# Altium footprint library WAT.PcbLib: 18 footprints (part 1 of 2)
Each footprint in its own frame and in the unit in brackets; x right, y up, seen from the top. Pads: shape width x height; smd on the part's side, far side on the other; paste and mask are expansions set on the pad; w line width, h text height; cw(c..) or ccw(c..) is an arc to the next point about the centre after c.
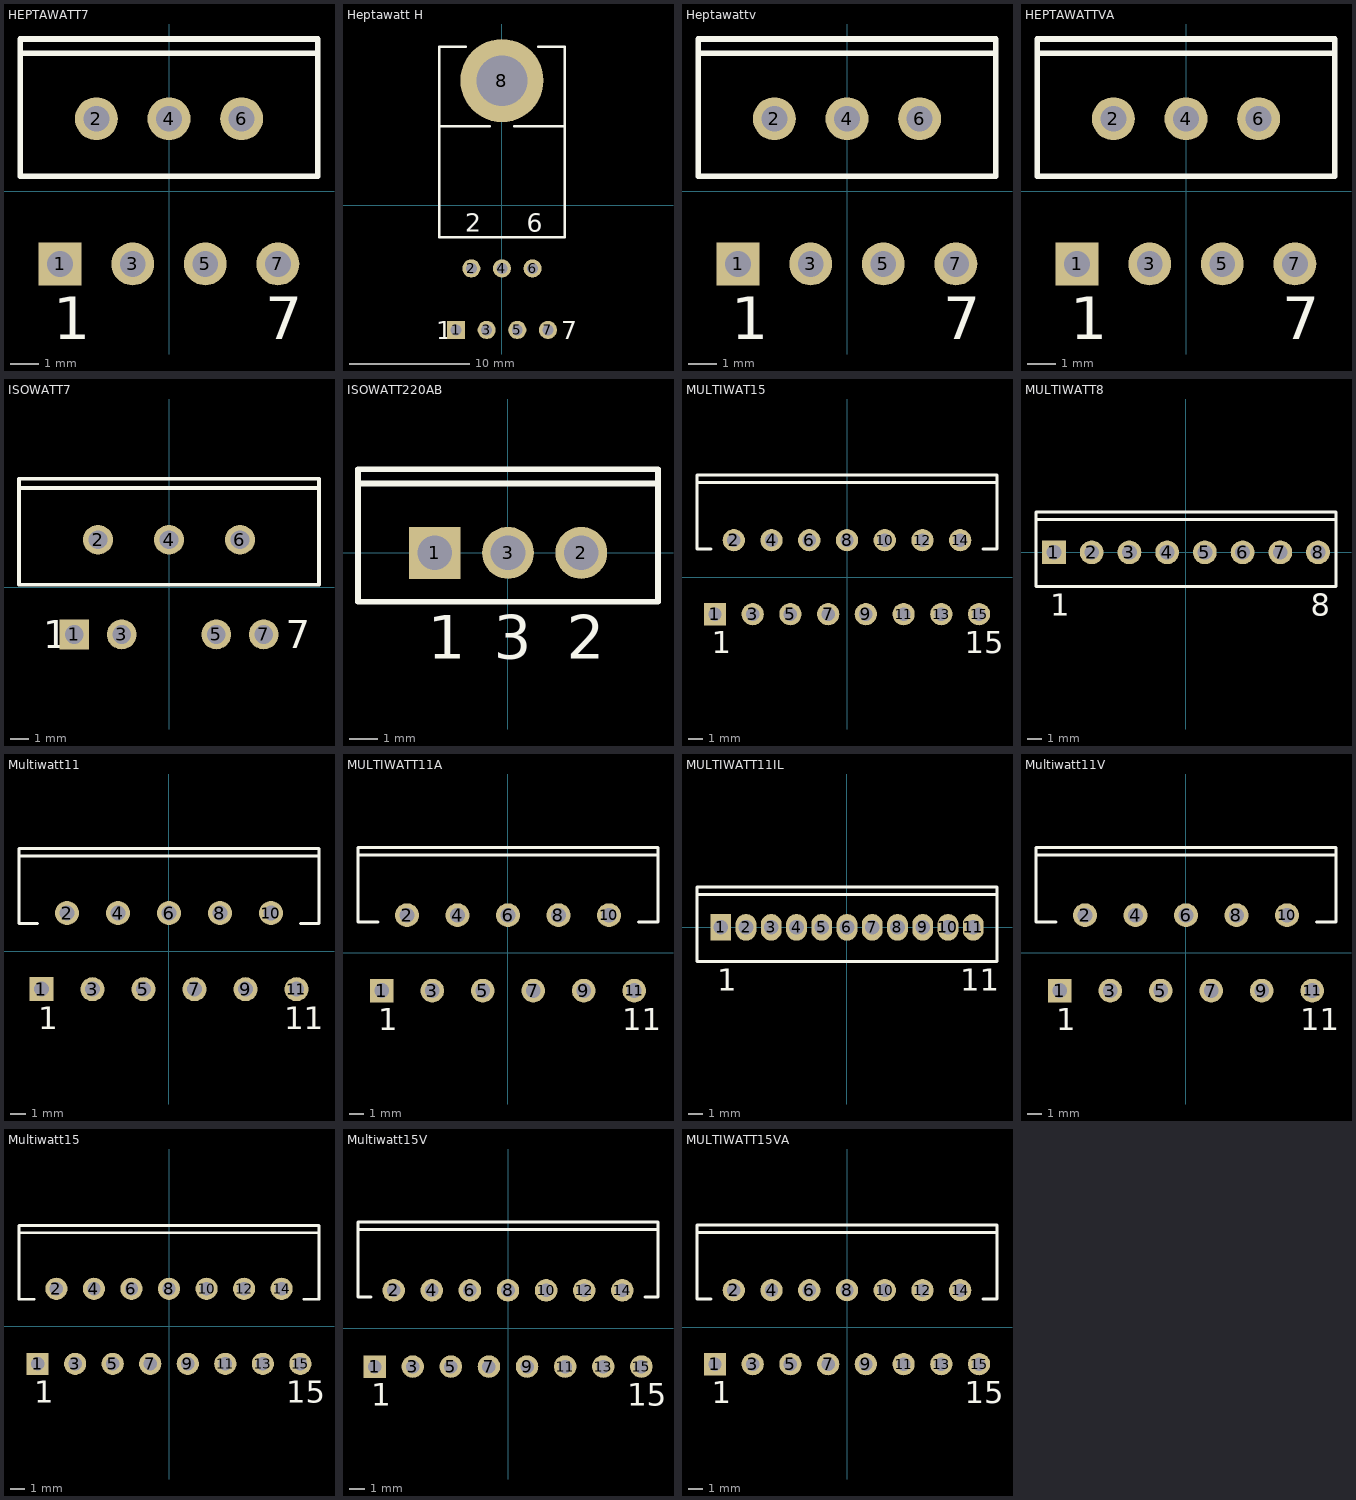
[diagram p0: the footprints below, top view; thin cyan lines are the x and y axes]

## HEPTAWATT7 [mm] "TO, Thru-Hole, Vertical, Heatsink Mounted; 7 Bent Staggered Leads; Pitch 1.27 mm"
height 20.2
pads (7):
  rect 1.5x1.5 hole 0.9: 1(-3.81,-2.54)
  round 1.5 hole 0.9: 2(-2.54,2.54) 3(-1.27,-2.54) 4(0,2.54) 5(1.27,-2.54) 6(2.54,2.54) 7(3.81,-2.54)
Top Overlay:
  lines w0.2: -5.2,4.83 5.2,4.83 ; -5.2,0.53 5.2,0.53 5.2,5.33 -5.2,5.33 -5.2,0.53
  text "7" at 3.37,-5.165 h1.5
  text "1" at -4.05,-5.165 h1.5

## Heptawatt H [mm] "TO, Thru-Hole, Horizontal, Heatsink Mounted; 7 Bent Staggered Leads; Pitch 1.27 mm"
height 4.8
pads (8):
  rect 1.5x1.5 hole 0.9: 1(-3.81,-10.34)
  round 1.5 hole 0.9: 2(-2.54,-5.24) 3(-1.27,-10.34) 4(0,-5.24) 5(1.27,-10.34) 6(2.54,-5.24) 7(3.81,-10.34)
  round 6.9 hole 4.2: 8(0,10.34)
Top Overlay:
  lines w0.2: -5.2,6.54 -1,6.54 ; -3,13.14 -5.2,13.14 -5.2,-2.66 5.2,-2.66 5.2,13.14 3,13.14 ; 1,6.54 5.2,6.54
  text "1" at -5.435,-11.09 h1.5
  text "7" at 4.935,-11.09 h1.5
  text "6" at 2.04,-2.185 h1.5
  text "2" at -3.04,-2.185 h1.5

## Heptawattv [mm] "TO, Thru-Hole, Vertical, Heatsink Mounted; 7 Bent Staggered Leads; Pitch 1.27 mm"
height 20.1
pads (7):
  rect 1.5x1.5 hole 0.9: 1(-3.81,-2.54)
  round 1.5 hole 0.9: 2(-2.54,2.54) 3(-1.27,-2.54) 4(0,2.54) 5(1.27,-2.54) 6(2.54,2.54) 7(3.81,-2.54)
Top Overlay:
  lines w0.2: -5.2,4.83 5.2,4.83 ; -5.2,0.53 -5.2,5.33 5.2,5.33 5.2,0.53 -5.2,0.53
  text "1" at -4.05,-5.165 h1.5
  text "7" at 3.37,-5.165 h1.5

## HEPTAWATTVA [mm] "TO, Thru-Hole, Vertical, Heatsink Mounted; 7 Bent Staggered Leads; Pitch 1.27 mm"
height 20.2
pads (7):
  rect 1.5x1.5 hole 0.9: 1(-3.81,-2.54)
  round 1.5 hole 0.9: 2(-2.54,2.54) 3(-1.27,-2.54) 4(0,2.54) 5(1.27,-2.54) 6(2.54,2.54) 7(3.81,-2.54)
Top Overlay:
  lines w0.2: -5.2,4.83 5.2,4.83 ; -5.2,0.53 -5.2,5.33 5.2,5.33 5.2,0.53 -5.2,0.53
  text "1" at -4.05,-5.165 h1.5
  text "7" at 3.37,-5.165 h1.5

## ISOWATT7 [mm] "TO, Thru-Hole, Vertical, Heatsink Mounted; 7 Bent Staggered Leads; Pitch 1.27 mm"
height 25.3
pads (7):
  rect 1.6x1.6 hole 1: 1(-5.08,-2.54)
  round 1.6 hole 1: 2(-3.81,2.54) 3(-2.54,-2.54) 4(0,2.54) 5(2.54,-2.54) 6(3.81,2.54) 7(5.08,-2.54)
Top Overlay:
  lines w0.2: -8.05,5.32 8.05,5.32 ; -8.05,0.12 8.05,0.12 8.05,5.82 -8.05,5.82 -8.05,0.12
  text "7" at 6.255,-3.29 h1.5
  text "1" at -6.755,-3.29 h1.5

## ISOWATT220AB [mm] "TO, Thru-Hole, Vertical, Heatsink Mounted; 3 In-Line Leads; Pitch 2.54 mm; Pin sequence 1, 3, 2"
height 16.4
pads (3):
  rect 1.8x1.8 hole 1.2: 1(-2.54,0)
  round 1.8 hole 1.2: 2(2.54,0) 3(0,0)
Top Overlay:
  lines w0.2: -5.2,2.4 5.2,2.4 ; -5.2,-1.7 5.2,-1.7 5.2,2.9 -5.2,2.9 -5.2,-1.7
  text "1" at -2.79,-3.675 h1.5
  text "2" at 2.04,-3.675 h1.5
  text "3" at -0.5,-3.675 h1.5

## MULTIWAT15 [mm] "TO, Thru-Hole, Vertical, Heatsink Mounted; 15 Bent Staggered Leads; Pitch 1.27 mm"
height 21
pads (15):
  rect 1.5x1.5 hole 0.9: 1(-8.89,-2.49)
  round 1.5 hole 0.9: 2(-7.62,2.49) 3(-6.35,-2.49) 4(-5.08,2.49) 5(-3.81,-2.49) 6(-2.54,2.49) 7(-1.27,-2.49) 8(0,2.49) 9(1.27,-2.49) 10(2.54,2.49) 11(3.81,-2.49) 12(5.08,2.49) 13(6.35,-2.49) 14(7.62,2.49) 15(8.89,-2.49)
Top Overlay:
  lines w0.2: -10.1,6.39 10.1,6.39 ; -9.144,1.89 -10.1,1.89 -10.1,6.89 10.1,6.89 10.1,1.89 9.144,1.89
  text "15" at 7.94,-5.115 h1.5
  text "1" at -9.12,-5.115 h1.5

## MULTIWATT8 [mm] "TO, Thru-Hole, Vertical, Heatsink Mounted; 8 In-Line Leads; Pitch 2.54 mm"
height 20.5
pads (8):
  rect 1.6x1.6 hole 1: 1(-8.89,0)
  round 1.6 hole 1: 2(-6.35,0) 3(-3.81,0) 4(-1.27,0) 5(1.27,0) 6(3.81,0) 7(6.35,0) 8(8.89,0)
Top Overlay:
  lines w0.2: -10.1,2.2 10.1,2.2 ; -10.1,-2.3 -10.1,2.7 10.1,2.7 10.1,-2.3 -10.1,-2.3
  text "8" at 8.39,-4.275 h1.5
  text "1" at -9.14,-4.275 h1.5

## Multiwatt11 [mm] "TO, Thru-Hole, Vertical, Heatsink Mounted; 11 Bent Staggered Leads; Pitch 1.7 mm"
height 21
pads (11):
  rect 1.6x1.6 hole 1: 1(-8.5,-2.54)
  round 1.6 hole 1: 2(-6.8,2.54) 3(-5.1,-2.54) 4(-3.4,2.54) 5(-1.7,-2.54) 6(0,2.54) 7(1.7,-2.54) 8(3.4,2.54) 9(5.1,-2.54) 10(6.8,2.54) 11(8.5,-2.54)
Top Overlay:
  lines w0.2: -10,6.33 9.9,6.33 ; -8.754,1.83 -10,1.83 -10,6.83 10,6.83 10,1.83 8.774,1.83
  text "1" at -8.73,-5.215 h1.5
  text "11" at 7.67,-5.215 h1.5

## MULTIWATT11A [mm] "TO, Thru-Hole, Vertical, Heatsink Mounted; 11 Bent Staggered Leads; Pitch 1.7 mm"
height 21
pads (11):
  rect 1.6x1.6 hole 1: 1(-8.5,-2.54)
  round 1.6 hole 1: 2(-6.8,2.54) 3(-5.1,-2.54) 4(-3.4,2.54) 5(-1.7,-2.54) 6(0,2.54) 7(1.7,-2.54) 8(3.4,2.54) 9(5.1,-2.54) 10(6.8,2.54) 11(8.5,-2.54)
Top Overlay:
  lines w0.2: -10.1,6.59 10.1,6.59 ; -8.754,2.09 -10.1,2.09 -10.1,7.09 10.1,7.09 10.1,2.09 8.774,2.09
  text "1" at -8.73,-5.215 h1.5
  text "11" at 7.69,-5.215 h1.5

## MULTIWATT11IL [mm] "TO, Thru-Hole, Vertical, Heatsink Mounted; 11 In-Line Leads; Pitch 1.70 mm"
height 17.8
pads (11):
  rect 1.4x1.8 hole 1: 1(-8.5,0)
  oval 1.4x1.8 hole 1: 2(-6.8,0) 3(-5.1,0) 4(-3.4,0) 5(-1.7,0) 6(0,0) 7(1.7,0) 8(3.4,0) 9(5.1,0) 10(6.8,0) 11(8.5,0)
Top Overlay:
  lines w0.2: -10.1,2.2 10.1,2.2 ; -10.1,-2.3 10.1,-2.3 10.1,2.7 -10.1,2.7 -10.1,-2.3
  text "1" at -8.75,-4.275 h1.5
  text "11" at 7.625,-4.275 h1.5

## Multiwatt11V [mm] "TO, Thru-Hole, Vertical, Heatsink Mounted; 11 Bent Staggered Leads; Pitch 1.7 mm"
height 21
pads (11):
  rect 1.6x1.6 hole 1: 1(-8.5,-2.54)
  round 1.6 hole 1: 2(-6.8,2.54) 3(-5.1,-2.54) 4(-3.4,2.54) 5(-1.7,-2.54) 6(0,2.54) 7(1.7,-2.54) 8(3.4,2.54) 9(5.1,-2.54) 10(6.8,2.54) 11(8.5,-2.54)
Top Overlay:
  lines w0.2: -10.1,6.59 10.1,6.59 ; -8.754,2.09 -10.1,2.09 -10.1,7.09 10.1,7.09 10.1,2.09 8.774,2.09
  text "11" at 7.69,-5.215 h1.5
  text "1" at -8.73,-5.215 h1.5

## Multiwatt15 [mm] "TO, Thru-Hole, Vertical, Heatsink Mounted; 15 Bent Staggered Leads; Pitch 1.27 mm"
height 21
pads (15):
  rect 1.5x1.5 hole 0.9: 1(-8.89,-2.54)
  round 1.5 hole 0.9: 2(-7.62,2.54) 3(-6.35,-2.54) 4(-5.08,2.54) 5(-3.81,-2.54) 6(-2.54,2.54) 7(-1.27,-2.54) 8(0,2.54) 9(1.27,-2.54) 10(2.54,2.54) 11(3.81,-2.54) 12(5.08,2.54) 13(6.35,-2.54) 14(7.62,2.54) 15(8.89,-2.54)
Top Overlay:
  lines w0.2: -10.15,6.33 10.05,6.33 ; -9.144,1.83 -10.15,1.83 -10.15,6.83 10.15,6.83 10.15,1.83 9.144,1.83
  text "15" at 7.95,-5.165 h1.5
  text "1" at -9.12,-5.165 h1.5

## Multiwatt15V [mm] "TO, Thru-Hole, Vertical, Heatsink Mounted; 15 Bent Staggered Leads; Pitch 1.27 mm"
height 21
pads (15):
  rect 1.5x1.5 hole 0.9: 1(-8.89,-2.54)
  round 1.5 hole 0.9: 2(-7.62,2.54) 3(-6.35,-2.54) 4(-5.08,2.54) 5(-3.81,-2.54) 6(-2.54,2.54) 7(-1.27,-2.54) 8(0,2.54) 9(1.27,-2.54) 10(2.54,2.54) 11(3.81,-2.54) 12(5.08,2.54) 13(6.35,-2.54) 14(7.62,2.54) 15(8.89,-2.54)
Top Overlay:
  lines w0.2: -10,6.59 10,6.59 ; -9.144,2.09 -10,2.09 -10,7.09 10,7.09 10,2.09 9.144,2.09
  text "15" at 7.94,-5.165 h1.5
  text "1" at -9.12,-5.165 h1.5

## MULTIWATT15VA [mm] "TO, Thru-Hole, Vertical, Heatsink Mounted; 15 Bent Staggered Leads; Pitch 1.27 mm"
height 21
pads (15):
  rect 1.5x1.5 hole 0.9: 1(-8.89,-2.49)
  round 1.5 hole 0.9: 2(-7.62,2.49) 3(-6.35,-2.49) 4(-5.08,2.49) 5(-3.81,-2.49) 6(-2.54,2.49) 7(-1.27,-2.49) 8(0,2.49) 9(1.27,-2.49) 10(2.54,2.49) 11(3.81,-2.49) 12(5.08,2.49) 13(6.35,-2.49) 14(7.62,2.49) 15(8.89,-2.49)
Top Overlay:
  lines w0.2: -10.1,6.39 10.1,6.39 ; -9.144,1.89 -10.1,1.89 -10.1,6.89 10.1,6.89 10.1,1.89 9.144,1.89
  text "1" at -9.12,-5.115 h1.5
  text "15" at 7.94,-5.115 h1.5

## PCBComponent_1 [mm]